# Altium schematic symbol library XLib.SchLib: 198 symbols (part 2 of 2)
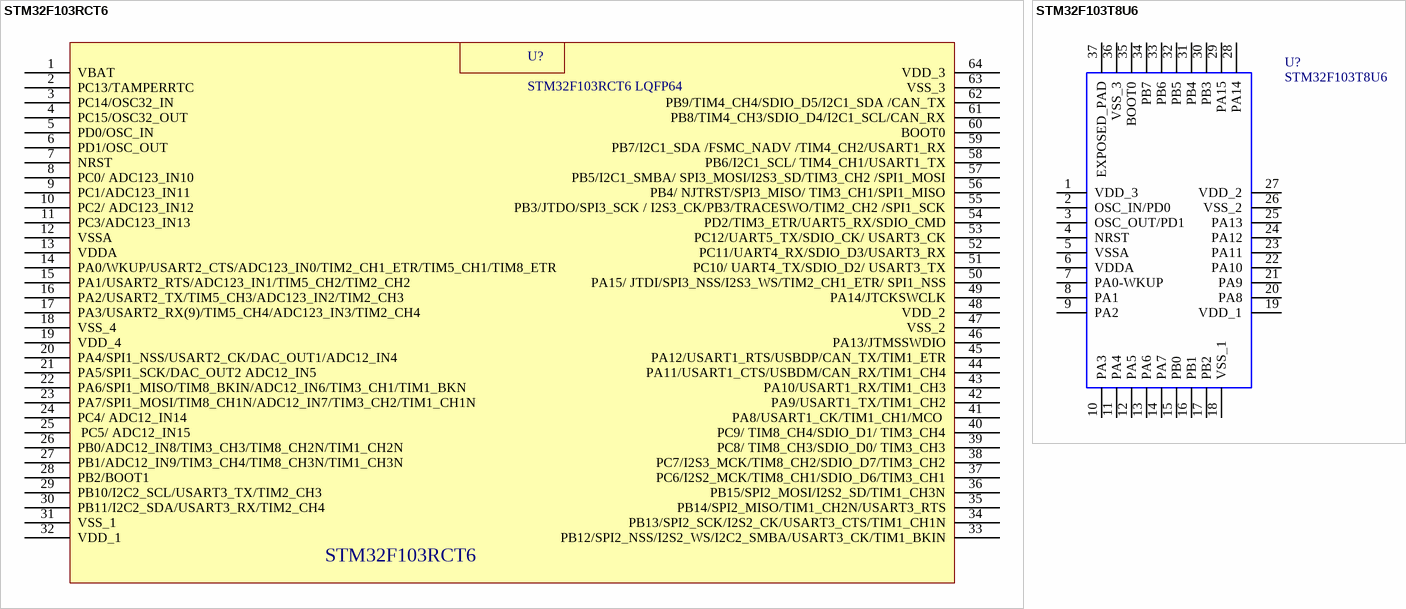
[diagram p9: symbols STM32F103RCT6 to STM32F103T8U6]

## STM32F103RCT6
designator U?, comment STM32F103RCT6 LQFP64
footprint LQFP64
pins: 1 VBAT, 2 PC13/TAMPERRTC, 3 PC14/OSC32_IN, 4 PC15/OSC32_OUT, 5 PD0/OSC_IN, 6 PD1/OSC_OUT, 7 NRST, 8 PC0/ ADC123_IN10, 9 PC1/ADC123_IN11, 10 PC2/ ADC123_IN12, 11 PC3/ADC123_IN13, 12 VSSA, 13 VDDA, 14 PA0/WKUP/USART2_CTS/ADC123_IN0/TIM2_CH1_ETR/TIM5_CH1/TIM8_ETR, 15 PA1/USART2_RTS/ADC123_IN1/TIM5_CH2/TIM2_CH2, 16 PA2/USART2_TX/TIM5_CH3/ADC123_IN2/TIM2_CH3 , 17 PA3/USART2_RX(9)/TIM5_CH4/ADC123_IN3/TIM2_CH4, 18 VSS_4, 19 VDD_4, 20 PA4/SPI1_NSS/USART2_CK/DAC_OUT1/ADC12_IN4, 21 PA5/SPI1_SCK/DAC_OUT2 ADC12_IN5 , 22 PA6/SPI1_MISO/TIM8_BKIN/ADC12_IN6/TIM3_CH1/TIM1_BKN, 23 PA7/SPI1_MOSI/TIM8_CH1N/ADC12_IN7/TIM3_CH2/TIM1_CH1N, 24 PC4/ ADC12_IN14 , 25  PC5/ ADC12_IN15 , 26 PB0/ADC12_IN8/TIM3_CH3/TIM8_CH2N/TIM1_CH2N, 27 PB1/ADC12_IN9/TIM3_CH4/TIM8_CH3N/TIM1_CH3N, 28 PB2/BOOT1, 29 PB10/I2C2_SCL/USART3_TX/TIM2_CH3, 30 PB11/I2C2_SDA/USART3_RX/TIM2_CH4, 31 VSS_1, 32 VDD_1, 33 PB12/SPI2_NSS/I2S2_WS/I2C2_SMBA/USART3_CK/TIM1_BKIN, 34 PB13/SPI2_SCK/I2S2_CK/USART3_CTS/TIM1_CH1N, 35 PB14/SPI2_MISO/TIM1_CH2N/USART3_RTS, 36 PB15/SPI2_MOSI/I2S2_SD/TIM1_CH3N, 37 PC6/I2S2_MCK/TIM8_CH1/SDIO_D6/TIM3_CH1, 38 PC7/I2S3_MCK/TIM8_CH2/SDIO_D7/TIM3_CH2, 39 PC8/ TIM8_CH3/SDIO_D0/ TIM3_CH3, 40 PC9/ TIM8_CH4/SDIO_D1/ TIM3_CH4, 41 PA8/USART1_CK/TIM1_CH1/MCO , 42 PA9/USART1_TX/TIM1_CH2, 43 PA10/USART1_RX/TIM1_CH3, 44 PA11/USART1_CTS/USBDM/CAN_RX/TIM1_CH4, 45 PA12/USART1_RTS/USBDP/CAN_TX/TIM1_ETR, 46 PA13/JTMSSWDIO, 47  VSS_2, 48 VDD_2, 49 PA14/JTCKSWCLK, 50 PA15/ JTDI/SPI3_NSS/I2S3_WS/TIM2_CH1_ETR/ SPI1_NSS, 51 PC10/ UART4_TX/SDIO_D2/ USART3_TX, 52 PC11/UART4_RX/SDIO_D3/USART3_RX, 53 PC12/UART5_TX/SDIO_CK/ USART3_CK, 54 PD2/TIM3_ETR/UART5_RX/SDIO_CMD, 55 PB3/JTDO/SPI3_SCK / I2S3_CK/PB3/TRACESWO/TIM2_CH2 /SPI1_SCK, 56 PB4/ NJTRST/SPI3_MISO/ TIM3_CH1/SPI1_MISO, 57 PB5/I2C1_SMBA/ SPI3_MOSI/I2S3_SD/TIM3_CH2 /SPI1_MOSI, 58 PB6/I2C1_SCL/ TIM4_CH1/USART1_TX, 59  PB7/I2C1_SDA /FSMC_NADV /TIM4_CH2/USART1_RX, 60 BOOT0, 61 PB8/TIM4_CH3/SDIO_D4/I2C1_SCL/CAN_RX, 62 PB9/TIM4_CH4/SDIO_D5/I2C1_SDA /CAN_TX, 63 VSS_3, 64 VDD_3

## STM32F103T8U6
designator U?
STM32F103T8U6, 32 bit ARM Cortex M3 Microcontroller 72MHz 64 kB Flash, 20 kB RAM, USB CAN I2C 36-Pin VFQFPN; Manufacturer_Name: STMicroelectronics; Allied_Number: 70391018; Geometry.Height: 1mm; Manufacturer_Part_Number: STM32F103T8U6; Mouser Part Number: 511-STM32F103T8U6; Mouser Price/Stock: https://www.mouser.com/Search/Refine.aspx?Keyword=511-STM32F103T8U6; RS Part Number: 7249612; RS Price/Stock: https://uk.rs-online.com/web/p/products/7249612; Allied Price/Stock: http://www.alliedelec.com/stmicroelectronics-stm32f103t8u6/70391018/; Datasheet Link: http://www.st.com/st-web-ui/static/active/en/resource/technical/document/datasheet/CD00161566.pdf
footprint VFQFPN36-6x6mm
pins: 1 VDD_3 (power), 2 OSC_IN/PD0, 3 OSC_OUT/PD1, 4 NRST, 5 VSSA, 6 VDDA (power), 7 PA0-WKUP, 8 PA1, 9 PA2, 10 PA3, 11 PA4, 12 PA5, 13 PA6, 14 PA7, 15 PB0, 16 PB1, 17 PB2, 18 VSS_1, 19 VDD_1 (power), 20 PA8, 21 PA9, 22 PA10, 23 PA11, 24 PA12, 25 PA13, 26 VSS_2, 27 VDD_2 (power), 28 PA14, 29 PA15, 30 PB3, 31 PB4, 32 PB5, 33 PB6, 34 PB7, 35 BOOT0, 36 VSS_3, 37 EXPOSED_PAD

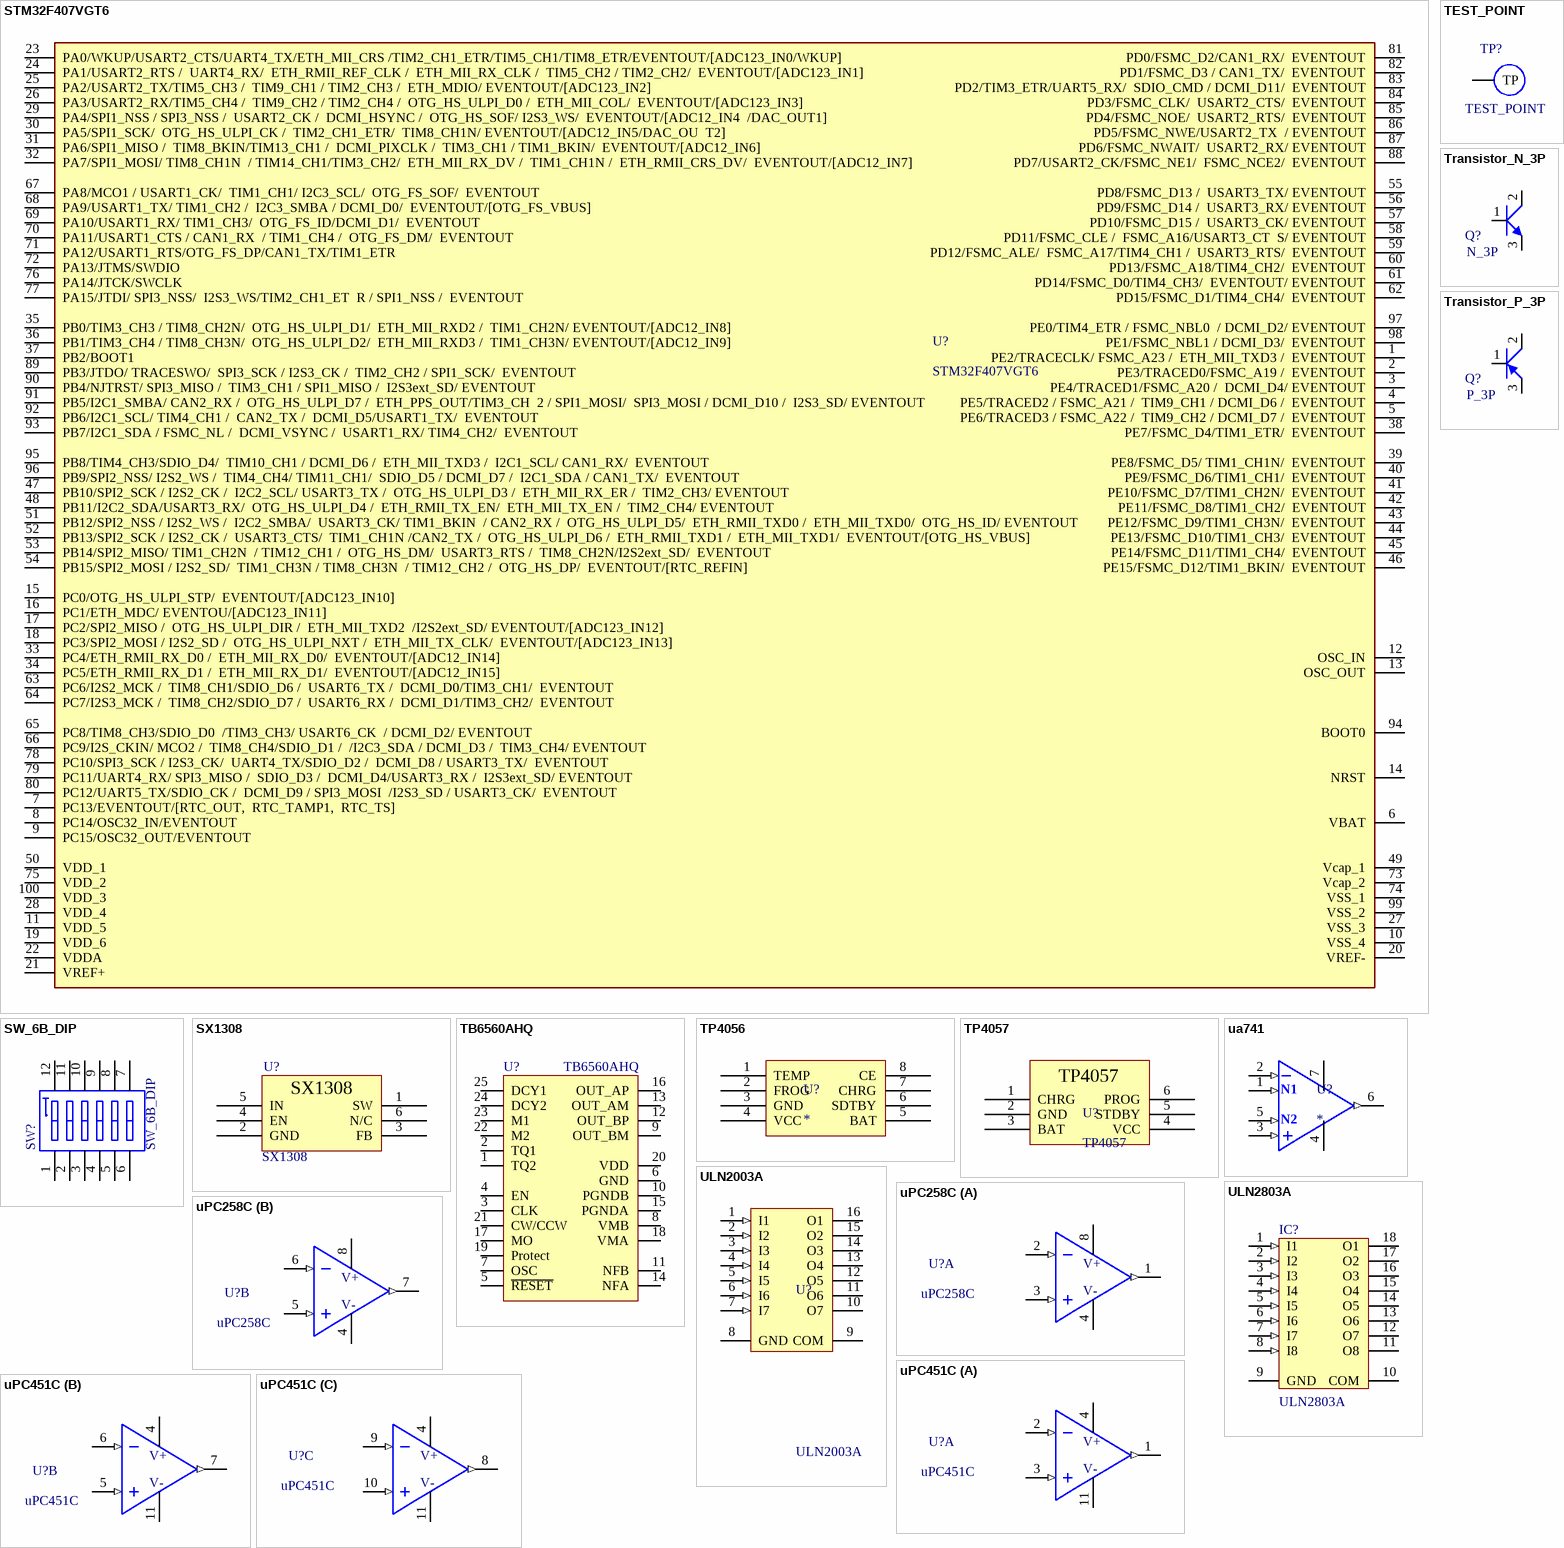
[diagram p7: symbols STM32F407VGT6 to uPC451C]

## STM32F407VGT6
designator U?
footprint LQFP100
pins: 1 PE2/TRACECLK/ FSMC_A23 /  ETH_MII_TXD3 /  EVENTOUT, 2 PE3/TRACED0/FSMC_A19 /  EVENTOUT, 3 PE4/TRACED1/FSMC_A20 /  DCMI_D4/ EVENTOUT, 4 PE5/TRACED2 / FSMC_A21 /  TIM9_CH1 / DCMI_D6 /  EVENTOUT, 5 PE6/TRACED3 / FSMC_A22 /  TIM9_CH2 / DCMI_D7 /  EVENTOUT, 6 VBAT, 7 PC13/EVENTOUT/[RTC_OUT,  RTC_TAMP1,  RTC_TS], 8 PC14/OSC32_IN/EVENTOUT, 9 PC15/OSC32_OUT/EVENTOUT, 10 VSS_4, 11 VDD_5, 12 OSC_IN, 13 OSC_OUT, 14 NRST, 15 PC0/OTG_HS_ULPI_STP/  EVENTOUT/[ADC123_IN10], 16 PC1/ETH_MDC/ EVENTOU/[ADC123_IN11], 17 PC2/SPI2_MISO /  OTG_HS_ULPI_DIR /  ETH_MII_TXD2  /I2S2ext_SD/ EVENTOUT/[ADC123_IN12], 18 PC3/SPI2_MOSI / I2S2_SD /  OTG_HS_ULPI_NXT /  ETH_MII_TX_CLK/  EVENTOUT/[ADC123_IN13], 19 VDD_6, 20 VREF-, 21 VREF+, 22 VDDA, 23 PA0/WKUP/USART2_CTS/UART4_TX/ETH_MII_CRS /TIM2_CH1_ETR/TIM5_CH1/TIM8_ETR/EVENTOUT/[ADC123_IN0/WKUP], 24 PA1/USART2_RTS /  UART4_RX/  ETH_RMII_REF_CLK /  ETH_MII_RX_CLK /  TIM5_CH2 / TIM2_CH2/  EVENTOUT/[ADC123_IN1], 25 PA2/USART2_TX/TIM5_CH3 /  TIM9_CH1 / TIM2_CH3 /  ETH_MDIO/ EVENTOUT/[ADC123_IN2], 26 PA3/USART2_RX/TIM5_CH4 /  TIM9_CH2 / TIM2_CH4 /  OTG_HS_ULPI_D0 /  ETH_MII_COL/  EVENTOUT/[ADC123_IN3], 27 VSS_3, 28 VDD_4, 29 PA4/SPI1_NSS / SPI3_NSS /  USART2_CK /  DCMI_HSYNC /  OTG_HS_SOF/ I2S3_WS/  EVENTOUT/[ADC12_IN4  /DAC_OUT1], 30 PA5/SPI1_SCK/  OTG_HS_ULPI_CK /  TIM2_CH1_ETR/  TIM8_CH1N/ EVENTOUT/[ADC12_IN5/DAC_OU  T2], 31 PA6/SPI1_MISO /  TIM8_BKIN/TIM13_CH1 /  DCMI_PIXCLK /  TIM3_CH1 / TIM1_BKIN/  EVENTOUT/[ADC12_IN6], 32 PA7/SPI1_MOSI/ TIM8_CH1N  / TIM14_CH1/TIM3_CH2/  ETH_MII_RX_DV /  TIM1_CH1N /  ETH_RMII_CRS_DV/  EVENTOUT/[ADC12_IN7], 33 PC4/ETH_RMII_RX_D0 /  ETH_MII_RX_D0/  EVENTOUT/[ADC12_IN14], 34 PC5/ETH_RMII_RX_D1 /  ETH_MII_RX_D1/  EVENTOUT/[ADC12_IN15], 35 PB0/TIM3_CH3 / TIM8_CH2N/  OTG_HS_ULPI_D1/  ETH_MII_RXD2 /  TIM1_CH2N/ EVENTOUT/[ADC12_IN8], 36 PB1/TIM3_CH4 / TIM8_CH3N/  OTG_HS_ULPI_D2/  ETH_MII_RXD3 /  TIM1_CH3N/ EVENTOUT/[ADC12_IN9], 37 PB2/BOOT1  , 38 PE7/FSMC_D4/TIM1_ETR/  EVENTOUT, 39 PE8/FSMC_D5/ TIM1_CH1N/  EVENTOUT, 40 PE9/FSMC_D6/TIM1_CH1/  EVENTOUT, 41 PE10/FSMC_D7/TIM1_CH2N/  EVENTOUT, 42 PE11/FSMC_D8/TIM1_CH2/  EVENTOUT, 43 PE12/FSMC_D9/TIM1_CH3N/  EVENTOUT, 44 PE13/FSMC_D10/TIM1_CH3/  EVENTOUT, 45 PE14/FSMC_D11/TIM1_CH4/  EVENTOUT, 46 PE15/FSMC_D12/TIM1_BKIN/  EVENTOUT, 47 PB10/SPI2_SCK / I2S2_CK /  I2C2_SCL/ USART3_TX /  OTG_HS_ULPI_D3 /  ETH_MII_RX_ER /  TIM2_CH3/ EVENTOUT, 48 PB11/I2C2_SDA/USART3_RX/  OTG_HS_ULPI_D4 /  ETH_RMII_TX_EN/  ETH_MII_TX_EN /  TIM2_CH4/ EVENTOUT, 49 Vcap_1, 50 VDD_1, 51 PB12/SPI2_NSS / I2S2_WS /  I2C2_SMBA/  USART3_CK/ TIM1_BKIN  / CAN2_RX /  OTG_HS_ULPI_D5/  ETH_RMII_TXD0 /  ETH_MII_TXD0/  OTG_HS_ID/ EVENTOUT, 52 PB13/SPI2_SCK / I2S2_CK /  USART3_CTS/  TIM1_CH1N /CAN2_TX /  OTG_HS_ULPI_D6 /  ETH_RMII_TXD1 /  ETH_MII_TXD1/  EVENTOUT/[OTG_HS_VBUS], 53 PB14/SPI2_MISO/ TIM1_CH2N  / TIM12_CH1 /  OTG_HS_DM/  USART3_RTS /  TIM8_CH2N/I2S2ext_SD/  EVENTOUT, 54 PB15/SPI2_MOSI / I2S2_SD/  TIM1_CH3N / TIM8_CH3N  / TIM12_CH2 /  OTG_HS_DP/  EVENTOUT/[RTC_REFIN], 55 PD8/FSMC_D13 /  USART3_TX/ EVENTOUT, 56 PD9/FSMC_D14 /  USART3_RX/ EVENTOUT, 57 PD10/FSMC_D15 /  USART3_CK/ EVENTOUT, 58 PD11/FSMC_CLE /  FSMC_A16/USART3_CT  S/ EVENTOUT, 59 PD12/FSMC_ALE/  FSMC_A17/TIM4_CH1 /  USART3_RTS/  EVENTOUT, 60 PD13/FSMC_A18/TIM4_CH2/  EVENTOUT, 61 PD14/FSMC_D0/TIM4_CH3/  EVENTOUT/ EVENTOUT, 62 PD15/FSMC_D1/TIM4_CH4/  EVENTOUT, 63 PC6/I2S2_MCK /  TIM8_CH1/SDIO_D6 /  USART6_TX /  DCMI_D0/TIM3_CH1/  EVENTOUT, 64 PC7/I2S3_MCK /  TIM8_CH2/SDIO_D7 /  USART6_RX /  DCMI_D1/TIM3_CH2/  EVENTOUT, 65 PC8/TIM8_CH3/SDIO_D0  /TIM3_CH3/ USART6_CK  / DCMI_D2/ EVENTOUT, 66 PC9/I2S_CKIN/ MCO2 /  TIM8_CH4/SDIO_D1 /  /I2C3_SDA / DCMI_D3 /  TIM3_CH4/ EVENTOUT, 67 PA8/MCO1 / USART1_CK/  TIM1_CH1/ I2C3_SCL/  OTG_FS_SOF/  EVENTOUT, 68 PA9/USART1_TX/ TIM1_CH2 /  I2C3_SMBA / DCMI_D0/  EVENTOUT/[OTG_FS_VBUS], 69 PA10/USART1_RX/ TIM1_CH3/  OTG_FS_ID/DCMI_D1/  EVENTOUT, 70 PA11/USART1_CTS / CAN1_RX  / TIM1_CH4 /  OTG_FS_DM/  EVENTOUT, 71 PA12/USART1_RTS/OTG_FS_DP/CAN1_TX/TIM1_ETR  , 72 PA13/JTMS/SWDIO  , 73 Vcap_2, 74 VSS_1, 75 VDD_2, 76 PA14/JTCK/SWCLK  , 77 PA15/JTDI/ SPI3_NSS/  I2S3_WS/TIM2_CH1_ET  R / SPI1_NSS /  EVENTOUT, 78 PC10/SPI3_SCK / I2S3_CK/  UART4_TX/SDIO_D2 /  DCMI_D8 / USART3_TX/  EVENTOUT, 79 PC11/UART4_RX/ SPI3_MISO /  SDIO_D3 /  DCMI_D4/USART3_RX /  I2S3ext_SD/ EVENTOUT, 80 PC12/UART5_TX/SDIO_CK /  DCMI_D9 / SPI3_MOSI  /I2S3_SD / USART3_CK/  EVENTOUT, 81 PD0/FSMC_D2/CAN1_RX/  EVENTOUT, 82 PD1/FSMC_D3 / CAN1_TX/  EVENTOUT, 83 PD2/TIM3_ETR/UART5_RX/  SDIO_CMD / DCMI_D11/  EVENTOUT, 84 PD3/FSMC_CLK/  USART2_CTS/  EVENTOUT, 85 PD4/FSMC_NOE/  USART2_RTS/  EVENTOUT, 86 PD5/FSMC_NWE/USART2_TX  / EVENTOUT, 87 PD6/FSMC_NWAIT/  USART2_RX/ EVENTOUT, 88 PD7/USART2_CK/FSMC_NE1/  FSMC_NCE2/  EVENTOUT, 89 PB3/JTDO/ TRACESWO/  SPI3_SCK / I2S3_CK /  TIM2_CH2 / SPI1_SCK/  EVENTOUT, 90 PB4/NJTRST/ SPI3_MISO /  TIM3_CH1 / SPI1_MISO /  I2S3ext_SD/ EVENTOUT, 91 PB5/I2C1_SMBA/ CAN2_RX /  OTG_HS_ULPI_D7 /  ETH_PPS_OUT/TIM3_CH  2 / SPI1_MOSI/  SPI3_MOSI / DCMI_D10 /  I2S3_SD/ EVENTOUT, 92 PB6/I2C1_SCL/ TIM4_CH1 /  CAN2_TX /  DCMI_D5/USART1_TX/  EVENTOUT, 93 PB7/I2C1_SDA / FSMC_NL /  DCMI_VSYNC /  USART1_RX/ TIM4_CH2/  EVENTOUT, 94 BOOT0, 95 PB8/TIM4_CH3/SDIO_D4/  TIM10_CH1 / DCMI_D6 /  ETH_MII_TXD3 /  I2C1_SCL/ CAN1_RX/  EVENTOUT, 96 PB9/SPI2_NSS/ I2S2_WS /  TIM4_CH4/ TIM11_CH1/  SDIO_D5 / DCMI_D7 /  I2C1_SDA / CAN1_TX/  EVENTOUT, 97 PE0/TIM4_ETR / FSMC_NBL0  / DCMI_D2/ EVENTOUT, 98 PE1/FSMC_NBL1 / DCMI_D3/  EVENTOUT, 99 VSS_2, 100 VDD_3

## SW_6B_DIP
designator SW?
Switch 6-bit; Manufacturer: Wurth Elektronik; Part No.: 418127160906; ComponentLink1 Description: Manufacturer; ComponentLink2 Description: Datasheet; Pole: 06; Created Date: Dec.2015; ComponentLink1URL: http://www.we-online.com; ComponentLink2URL: http://katalog.we-online.de/em/datasheet/4181271609xx.pdf; Created by: Baojun Chen
footprint SW_6B_DIP
pins: 1, 2, 3, 4, 5, 6, 7, 8, 9, 10, 11, 12

## SX1308
designator U?
footprint SOT23-6
pins: 1 SW, 2 GND, 3 FB, 4 EN, 5 IN, 6 N/C

## TB6560AHQ
designator U?
PWM chopper-type stepping motor / driver IC designed for sinusoidal-input microstep control of bipolar stepping motors.
footprint HZIP25_1.27_S
footprint HZIP25_1.27_A
pins: 1 TQ2, 2 TQ1, 3 CLK, 4 EN, 5 ~{RESET}, 6 GND, 7 OSC, 8 VMB, 9 OUT_BM, 10 PGNDB, 11 NFB, 12 OUT_BP, 13 OUT_AM, 14 NFA, 15 PGNDA, 16 OUT_AP, 17 MO, 18 VMA, 19 Protect, 20 VDD, 21 CW/CCW, 22 M2, 23 M1, 24 DCY2, 25 DCY1

## TEST_POINT
designator TP?
footprint Test_Point
footprint Test_Point_1
pins: 1 TP

## TP4056
designator U?
footprint SOP8
pins: 1 TEMP, 2 FROG, 3 GND, 4 VCC, 5 BAT, 6 SDTBY, 7 CHRG, 8 CE

## TP4057
designator U?
footprint SOT23-6
pins: 1 CHRG, 2 GND, 3 BAT, 4 VCC, 5 STDBY, 6 PROG

## Transistor_N_3P
designator Q?, comment N_3P
footprint SOT23 (SOT-23)
footprint TO252
footprint TO220
footprint TO220DH (TO-220 - 1-2-3)
footprint TO220H1 (TO-220 - 1-2-3)
footprint TO220H2 (TO-220 - 1-2-3)
footprint TO220H3 (TO-220 1-2-3)
footprint TO220H4 (TO-220 1-2-3)
footprint TO220H4DH
footprint TO220UH (TO-220 - 1-2-3)
footprint TO92 (TO, Flat Index; 3 In-Line, Axial Leads; Body Dia. 4.8mm)
pins: 1 B, 2 C, 3 E

## Transistor_P_3P
designator Q?, comment P_3P
footprint SOT23 (SOT-23)
footprint TO252
footprint TO220
footprint TO220DH (TO-220 - 1-2-3)
footprint TO220H1 (TO-220 - 1-2-3)
footprint TO220H2 (TO-220 - 1-2-3)
footprint TO220H3 (TO-220 1-2-3)
footprint TO220H4 (TO-220 1-2-3)
footprint TO220H4DH
footprint TO220UH (TO-220 - 1-2-3)
footprint TO92 (TO, Flat Index; 3 In-Line, Axial Leads; Body Dia. 4.8mm)
pins: 1 B, 2 C, 3 E

## ua741
designator U?
footprint sop8 (Footprint not found)
pins: 1 OS_N1 (in), 2 1 IN- (in), 3 1 IN+ (in), 4 V- (power), 5 OS_N2 (in), 6 OUT (out), 7 V+ (power)
text: N1; N2

## ULN2003A
designator U?
MH002408-SMD,; LatestRevisionNote: Stylized 3D Model Added.; Publisher: Altium Limited; Value: ULN2003A
footprint sop16 (Small Outline; 16 Leads; Body Width 5.6 mm; Pitch 1.27 mm)
pins: 1 I1 (in), 2 I2 (in), 3 I3 (in), 4 I4 (in), 5 I5 (in), 6 I6 (in), 7 I7 (in), 8 GND (power), 9 COM, 10 O7 (oc), 11 O6 (oc), 12 O5 (oc), 13 O4 (oc), 14 O3 (oc), 15 O2 (oc), 16 O1 (oc)

## ULN2803A
designator IC?
High-Voltage, High-Current Darlington Array; LatestRevisionNote: Stylized 3D Model Added.; Publisher: Altium Limited; Value: ULN2803A
footprint SOIC18 (SOIC, 18-Leads, Body 11.50x7.50mm, Pitch 1.27mm, IPC Medium Density)
pins: 1 I1 (in), 2 I2 (in), 3 I3 (in), 4 I4 (in), 5 I5 (in), 6 I6 (in), 7 I7 (in), 8 I8 (in), 9 GND (power), 10 COM, 11 O8 (oc), 12 O7 (oc), 13 O6 (oc), 14 O5 (oc), 15 O4 (oc), 16 O3 (oc), 17 O2 (oc), 18 O1 (oc)

## uPC258C
designator U?
footprint DIP8
part A pins: 1 OUT (out), 2 IN- (in), 3 IN+ (in), 4 V- (power), 8 V+ (power)
part B pins: 4 V- (power), 5 IN+ (in), 6 IN- (in), 7 OUT (out), 8 V+ (power)

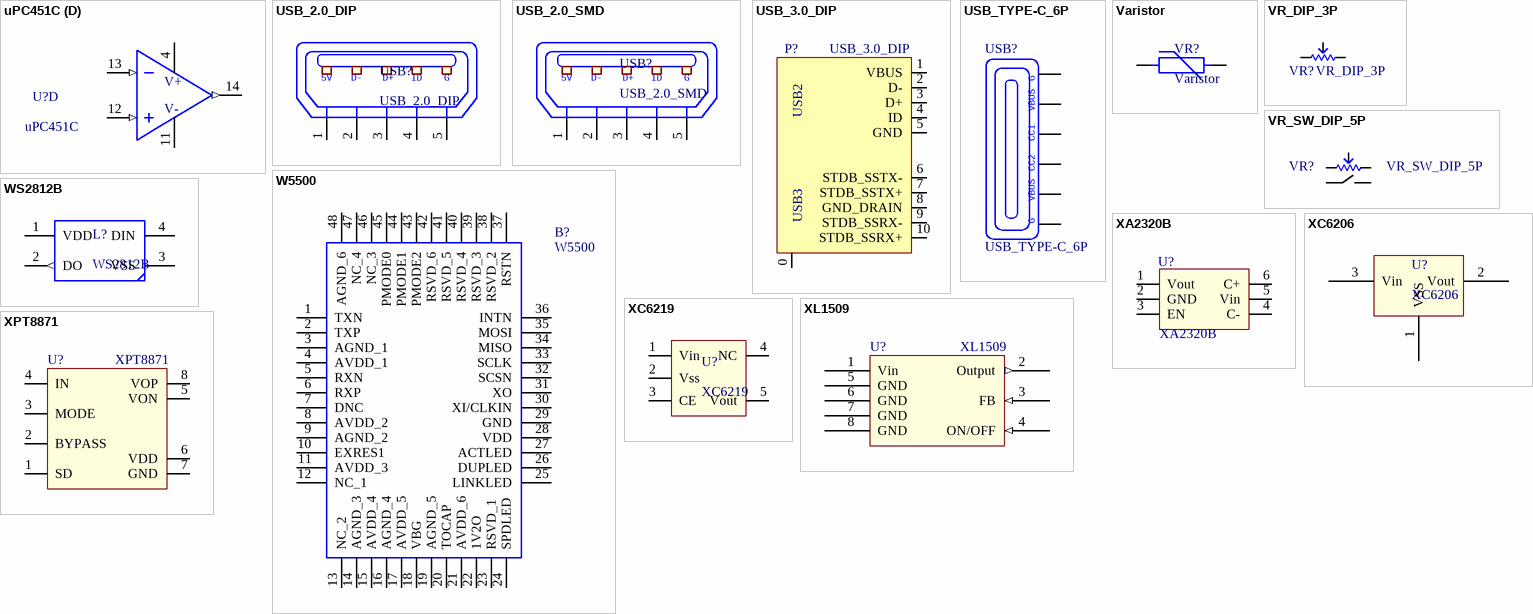
[diagram p8: symbols uPC451C to XPT8871]

## uPC451C
designator U?
footprint DIP14
part A pins: 1 OUT (out), 2 IN- (in), 3 IN+ (in), 4 V+ (power), 11 V- (power)
part B pins: 4 V+ (power), 5 IN+ (in), 6 IN- (in), 7 OUT (out), 11 V- (power)
part C pins: 4 V+ (power), 8 OUT (out), 9 IN- (in), 10 IN+ (in), 11 V- (power)
part D pins: 4 V+ (power), 11 V- (power), 12 IN+ (in), 13 IN- (in), 14 OUT (out)

## USB_2.0_DIP
designator USB?
footprint USB-MICRO-DIP
footprint USB-MINI-DIP
footprint USB-MICRO-DIP-UP
pins: 1 P1, 2 P2, 3 P3, 4 P4, 5 P5
text: 5V; D-; D+; ID; G

## USB_2.0_SMD
designator USB?
footprint USB-MINI-SMD
footprint USB-MICRO-SMD
pins: 1 P1, 2 P2, 3 P3, 4 P4, 5 P5
text: 5V; D-; D+; ID; G

## USB_3.0_DIP
designator P?
footprint USB_MICRO_3.0_DIP (CONN RCPT USB MICRO B 3.0 SMD)
pins: 0, 1 VBUS, 2 D-, 3 D+, 4 ID, 5 GND, 6 STDB_SSTX-, 7 STDB_SSTX+, 8 GND_DRAIN, 9 STDB_SSRX-, 10 STDB_SSRX+
text: USB2; USB3

## USB_TYPE-C_6P
designator USB?
footprint USB_TYPEC_6P_DIP+SMD
pins: A5, A9, A12, B5, B9, B12
text: G; VBUS; CC1; CC2

## Varistor
designator VR?
footprint VARISTOR_10D_14D (VARISTOR_10D)
footprint VARISTOR_7D
pins: 1, 2

## VR_DIP_3P
designator VR?
footprint VR1_DIP_3P (Bien tro vi chinh)
footprint VR2_DIP_3P
footprint VR_DIP_3P
pins: 1, 2, 3

## VR_SW_DIP_5P
designator VR?
footprint RV097NS_5P
pins: 1, 2, 3, 4, 5

## W5500
designator B?
Ethernet ICs 3in1 Enet Controller TCP/IP +MAC+PHY; Manufacturer_Name: WIZnet Inc; Geometry.Height: 1.6mm; Manufacturer_Part_Number: W5500; Mouser Part Number: 950-W5500; Mouser Price/Stock: https://www.mouser.com/Search/Refine.aspx?Keyword=950-W5500; RS Part Number: *; RS Price/Stock: *; Datasheet Link: http://wizwiki.net/wiki/lib/exe/fetch.php?media=products:w5500:w5500_ds_v106e_141230.pdf
footprint QFP50P900X900X160-48N
pins: 1 TXN, 2 TXP, 3 AGND_1, 4 AVDD_1 (power), 5 RXN, 6 RXP, 7 DNC, 8 AVDD_2 (power), 9 AGND_2, 10 EXRES1, 11 AVDD_3 (power), 12 NC_1, 13 NC_2, 14 AGND_3, 15 AVDD_4 (power), 16 AGND_4, 17 AVDD_5 (power), 18 VBG, 19 AGND_5, 20 TOCAP, 21 AVDD_6 (power), 22 1V2O, 23 RSVD_1, 24 SPDLED, 25 LINKLED, 26 DUPLED, 27 ACTLED, 28 VDD (power), 29 GND, 30 XI/CLKIN, 31 XO, 32 SCSN, 33 SCLK, 34 MISO, 35 MOSI, 36 INTN, 37 RSTN, 38 RSVD_2, 39 RSVD_3, 40 RSVD_4, 41 RSVD_5, 42 RSVD_6, 43 PMODE2, 44 PMODE1, 45 PMODE0, 46 NC_3, 47 NC_4, 48 AGND_6

## WS2812B
designator L?
footprint ws2812b
pins: 1 VDD (power), 2 DO (out), 3 VSS (power), 4 DIN (power)

## XA2320B
designator U?
Buck-Boost 3.3V charge pump
footprint sot23-6
pins: 1 Vout, 2 GND, 3 EN, 4 C-, 5 Vin, 6 C+

## XC6206
designator U?
footprint SOT23 (SOT-23)
pins: 1 VSS, 2 Vout, 3 Vin

## XC6219
designator U?
footprint SOT23-5
pins: 1 Vin (power), 2 Vss (power), 3 CE (power), 4 NC (power), 5 Vout (power)

## XL1509
designator U?
footprint SOIC8
pins: 1 Vin (power), 2 Output (out), 3 FB (in), 4 ON/OFF (in), 5 GND (power), 6 GND (power), 7 GND (power), 8 GND (power)

## XPT8871
designator U?
Amplifier BTL 5W-2R 2.0V-5.5V Single
footprint SOP8
pins: 1 SD, 2 BYPASS, 3 MODE, 4 IN, 5 VON, 6 VDD, 7 GND, 8 VOP